# Altium schematic symbol library BQ24040DSQR.SchLib: 1 symbol
Pins are listed as number, name and electrical type; pins without a type are passive.

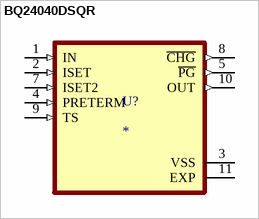
[diagram p0: symbol BQ24040DSQR]

## BQ24040DSQR
designator U?
Standalone 1-cell 1-A linear battery charger with 4.2-V VBAT and Temperature Sensing; MF: Texas Instruments; MP: BQ24040DSQR; SnapEDA_Link: https://www.snapeda.com/parts/BQ24040DSQR/Texas+Instruments/view-part/?ref=snap; Package: WSON-10 Texas Instruments; Value: *; Check_prices: https://www.snapeda.com/parts/BQ24040DSQR/Texas+Instruments/view-part/?ref=eda; LCSC Part Number: C81080
footprint SON40P200X200X80-11N
pins: 1 IN (in), 2 ISET (in), 3 VSS (power), 4 PRETERM (in), 5 ~{PG} (out), 7 ISET2 (in), 8 ~{CHG} (out), 9 TS (in), 10 OUT (out), 11 EXP (power)